# Altium integrated library First.IntLib: 2 symbols
Pins are listed as number, name and electrical type; pins without a type are passive.

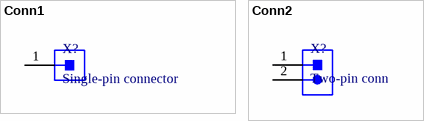
[diagram p0: symbols Conn1 to Conn2]

## Conn1
designator X?, comment Single-pin connector
Single-pin connector of different types
footprint PLS-1
footprint Hole 6x3.5
pins: 1

## Conn2
designator X?, comment Two-pin conn
Two-pin connector of different types
footprint PLS-2
pins: 1, 2